# Altium schematic symbol library DSO.SchLib: 193 symbols (part 2 of 2)
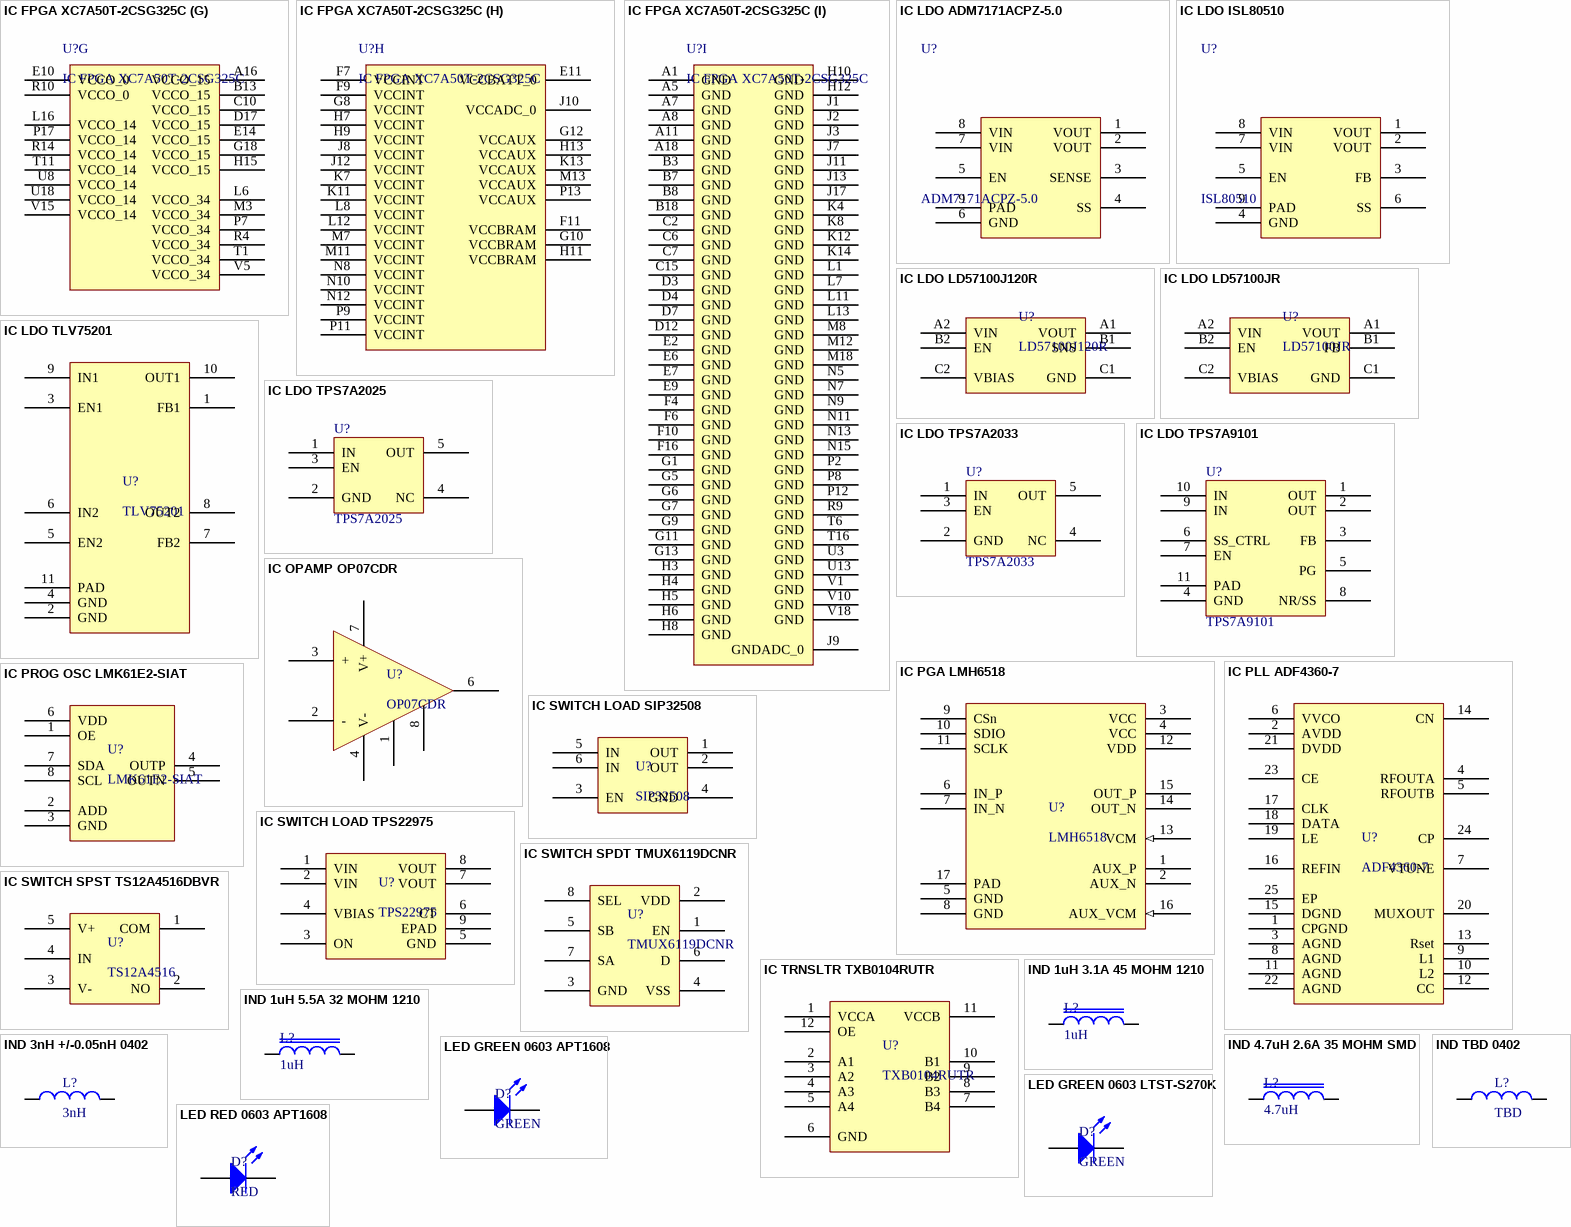
[diagram p8: symbols IC FPGA XC7A50T-2CSG325C to LED RED 0603 APT1608]

## IC LDO ADM7171ACPZ-5.0
designator U?, comment ADM7171ACPZ-5.0
Manufacturer: Analog Devices; Manufacturer Part Number: ADM7171ACPZ-5.0-R7; Supplier 1: Digi-Key; Supplier Part Number 1: 505-ADM7171ACPZ-5.0-R7CT-ND
footprint AD_DFN8_CP-8-21 (SON, 8-Leads, Body 3.00x3.00mm, Pitch 0.50mm, Thermal Pad 2.44x1.49mm, IPC Medium Density)
pins: 1 VOUT (power), 2 VOUT (power), 3 SENSE, 4 SS, 5 EN, 6 GND (power), 7 VIN (power), 8 VIN (power), 9 PAD

## IC LDO ISL80510
designator U?, comment ISL80510
Manufacturer: Renesas; Manufacturer Part Number: ISL80510IRAJZ-T7A; Supplier 1: Mouser; Supplier Part Number 1: 968-ISL80510IRAJZ-T7
footprint REN_DFN_ISL80510 (QFN, 8-Leads, Body 3.00x3.00mm, Pitch 0.65mm, Thermal Pad 1.62x2.36mm, IPC Medium Density)
pins: 1 VOUT (power), 2 VOUT (power), 3 FB, 4 GND (power), 5 EN, 6 SS, 7 VIN (power), 8 VIN (power), 9 PAD

## IC LDO LD57100J120R
designator U?, comment LD57100J120R
Manufacturer: STMicroelectronics; Supplier 1: Digi-Key; Supplier Part Number 1: 497-LD57100J120RCT-ND; Manufacturer Part Number: LD57100J120R
footprint ST_FlipChip6 (BGA, 6-Leads, Body 0.78x1.18mmx0.36mm, Pitch 0.40mm)
pins: A1 VOUT, A2 VIN, B1 SNS, B2 EN, C1 GND, C2 VBIAS

## IC LDO LD57100JR
designator U?, comment LD57100JR
Manufacturer: STMicroelectronics; Supplier 1: Digi-Key; Supplier Part Number 1: 497-LD57100JRCT-ND; House Part Number: LD57100JR; Manufacturer Part Number: LD57100JR
footprint ST_FlipChip6 (BGA, 6-Leads, Body 0.78x1.18mmx0.36mm, Pitch 0.40mm)
pins: A1 VOUT, A2 VIN, B1 FB, B2 EN, C1 GND, C2 VBIAS

## IC LDO TLV75201
designator U?, comment TLV75201
Manufacturer: Texas Instruments; Manufacturer Part Number: TLV75201PDSQR; Supplier 1: Texas Instruments; Supplier Part Number 1: TLV75201PDSQR
footprint TI_WSON10_DSQ0010A (SON, 10-Leads, Body 2.00x2.00mm, Pitch 0.40mm, Thermal Pad 1.50x0.69mm, IPC Medium Density)
pins: 1 FB1, 2 GND (power), 3 EN1, 4 GND (power), 5 EN2, 6 IN2 (power), 7 FB2, 8 OUT2 (power), 9 IN1 (power), 10 OUT1 (power), 11 PAD (power)

## IC LDO TPS7A2025
designator U?, comment TPS7A2025
Manufacturer: Texas Instruments; Manufacturer Part Number: TPS7A2025PDBVR; Supplier 1: Mouser; Supplier Part Number 1: 595-TPS7A2025PDBVR
footprint GEN_SOT23_5_950_2900X1600X1450 (SOT23, 5-Leads, Body 2.90x2.80mm, Pitch 0.95mm, IPC Medium Density)
pins: 1 IN (power), 2 GND (power), 3 EN, 4 NC, 5 OUT (power)

## IC LDO TPS7A2033
designator U?, comment TPS7A2033
Manufacturer: Texas Instruments; Manufacturer Part Number: TPS7A2033PDBVR; Supplier 1: Mouser; Supplier Part Number 1: 595-TPS7A2033PDBVR
footprint GEN_SOT23_5_950_2900X1600X1450 (SOT23, 5-Leads, Body 2.90x2.80mm, Pitch 0.95mm, IPC Medium Density)
pins: 1 IN (power), 2 GND (power), 3 EN, 4 NC, 5 OUT (power)

## IC LDO TPS7A9101
designator U?, comment TPS7A9101
Supplier 1: Digi-Key; Supplier Part Number 1: 296-45298-1-ND
footprint TI_WSON10_DSK0010A (SON, 10-Leads, Body 2.50x2.50mm, Pitch 0.50mm, Thermal Pad 2.00x1.09mm, IPC Medium Density)
pins: 1 OUT (power), 2 OUT (power), 3 FB, 4 GND (power), 5 PG, 6 SS_CTRL, 7 EN, 8 NR/SS, 9 IN (power), 10 IN (power), 11 PAD

## IC OPAMP OP07CDR
designator U?, comment OP07CDR
Manufacturer: Texas Instruments; Supplier 1: Digi-Key; Supplier Part Number 1: 296-14626-1-ND; Manufacturer Part Number: OP07CDR
footprint TI_SOIC8_D0008A (SOIC, 8-Leads, Body 4.91x3.90mm, Pitch 1.27mm, Height 1.75mm, IPC Medium Density)
pins: 1 N1, 2 -, 3 +, 4 V-, 6 OUT, 7 V+, 8 N2

## IC PGA LMH6518
designator U?, comment LMH6518
Manufacturer: Texas Instruments; Manufacturer Part Number: LMH6518SQE/NOPB; Supplier 1: Digi-Key; Supplier Part Number 1: LMH6518SQE/NOPBCT-ND
footprint TI_WQFN_RGH0016A (QFN, 16-Leads, Body 4.00x4.00mm, Pitch 0.50mm, Thermal Pad 2.60x2.60mm, IPC Medium Density)
pins: 1 AUX_P, 2 AUX_N, 3 VCC (power), 4 VCC (power), 5 GND (power), 6 IN_P, 7 IN_N, 8 GND (power), 9 CSn, 10 SDIO, 11 SCLK, 12 VDD (power), 13 VCM (in), 14 OUT_N, 15 OUT_P, 16 AUX_VCM (in), 17 PAD (power)

## IC PLL ADF4360-7
designator U?, comment ADF4360-7
Supplier 1: Digi-Key; Supplier Part Number 1: ADF4360-7BCPZRL7CT-ND
footprint AD_QFN24_CP-24-14 (QFN, 24-Leads, Body 4.00x4.00mm, Pitch 0.50mm, Thermal Pad 2.30x2.30mm, IPC Medium Density)
pins: 1 CPGND (power), 2 AVDD, 3 AGND, 4 RFOUTA, 5 RFOUTB, 6 VVCO, 7 VTUNE, 8 AGND, 9 L1, 10 L2, 11 AGND, 12 CC, 13 Rset, 14 CN, 15 DGND, 16 REFIN, 17 CLK, 18 DATA, 19 LE, 20 MUXOUT, 21 DVDD, 22 AGND, 23 CE, 24 CP, 25 EP

## IC PROG OSC LMK61E2-SIAT
designator U?, comment LMK61E2-SIAT
Manufacturer: Texas Instruments; Supplier 1: Digi-Key; Supplier Part Number 1: 296-43212-1-ND; Manufacturer Part Number: LMK61E2-SIAT
footprint TI_QFM8_SIA0008B
pins: 1 OE, 2 ADD, 3 GND (power), 4 OUTP, 5 OUTN, 6 VDD (power), 7 SDA, 8 SCL

## IC SWITCH LOAD SIP32508
designator U?, comment SIP32508
Manufacturer: Vishay Siliconix; Manufacturer Part Number: SIP32508DT-T1-GE3; Supplier 1: Digi-Key; Supplier Part Number 1: SIP32508DT-T1-GE3CT-ND; House Part Number: SIP32508
footprint VISH_TSOT6 (SOT23, 6-Leads, Body 2.98x2.84mm, Pitch 0.95mm, IPC Medium Density)
pins: 1 OUT, 2 OUT, 3 EN, 4 GND, 5 IN, 6 IN

## IC SWITCH LOAD TPS22975
designator U?, comment TPS22975
Manufacturer: Texas Instruments; Manufacturer Part Number: TPS22975DSGR; Supplier 1: Digi-Key; Supplier Part Number 1: 296-47228-1-ND
footprint TI_WSON8_DSG0008A (SON, 8-Leads, Body 2.00x2.00mm, Pitch 0.50mm, Thermal Pad 1.60x0.69mm, IPC Medium Density)
pins: 1 VIN, 2 VIN, 3 ON, 4 VBIAS, 5 GND, 6 CT, 7 VOUT, 8 VOUT, 9 EPAD

## IC SWITCH SPDT TMUX6119DCNR
designator U?, comment TMUX6119DCNR
Manufacturer: Texas Instruments; Manufacturer Part Number: TMUX6119DCNR; Supplier 1: Texas Instruments; Supplier Part Number 1: TMUX6119DCNR
footprint TI_SOT23_8_DCN (TSOP, 8-Leads, Body 2.90x1.60mm, Pitch 0.65mm, IPC Medium Density)
pins: 1 EN, 2 VDD, 3 GND, 4 VSS, 5 SB, 6 D, 7 SA, 8 SEL

## IC SWITCH SPST TS12A4516DBVR
designator U?, comment TS12A4516
Manufacturer: Texas Instruments; Manufacturer Part Number: TS12A4516DBVR; Supplier 1: Digi-Key; Supplier Part Number 1: 296-24269-1-ND
footprint GEN_SOT23_5_950_2900X1600X1450 (SOT23, 5-Leads, Body 2.90x2.80mm, Pitch 0.95mm, IPC Medium Density)
pins: 1 COM, 2 NO, 3 V-, 4 IN, 5 V+

## IC TRNSLTR TXB0104RUTR
designator U?, comment TXB0104RUTR
Manufacturer: Texas Instruments; Supplier 1: Digi-Key; Supplier Part Number 1: 296-25888-1-ND; House Part Number: TXB0104RUTR; Manufacturer Part Number: TXB0104RUTR
footprint TI_UQFN_RUT0012A
pins: 1 VCCA, 2 A1, 3 A2, 4 A3, 5 A4, 6 GND, 7 B4, 8 B3, 9 B2, 10 B1, 11 VCCB, 12 OE

## IND 1uH 3.1A 45 MOHM 1210
designator L?, comment 1uH
Manufacturer: Murata; Manufacturer Part Number: 1277AS-H-1R0M=P2; Value: 1uH; Supplier 1: Digi-Key; Supplier Part Number 1: 490-10590-1-ND
footprint GEN_L_1210 (Chip Inductor, 2-Leads, Body 3.20x2.50mm, IPC Medium Density)
pins: 1, 2

## IND 1uH 5.5A 32 MOHM 1210
designator L?, comment 1uH
Manufacturer: Bourns; House Part Number: SRP3212-1R0M; Value: 1uH; Supplier 1: Digi-Key; Supplier Part Number 1: 118-SRP3212-1R0MCT-ND; Manufacturer Part Number: SRP3212-1R0M
footprint GEN_L_1210 (Chip Inductor, 2-Leads, Body 3.20x2.50mm, IPC Medium Density)
pins: 1, 2

## IND 3nH +/-0.05nH 0402
designator L?, comment 3nH
Value: 3nH; Supplier 1: Digi-Key; Supplier Part Number 1: 490-8434-1-ND
footprint GEN_L_0402 (Chip Inductor, 2-Leads, Body 1.00x0.50mm, IPC Medium Density)
pins: 1, 2

## IND 4.7uH 2.6A 35 MOHM SMD
designator L?, comment 4.7uH
Manufacturer: Taiyo Yuden; Manufacturer Part Number: NRS5030T4R7MMGJ; Value: 4.7uH; Supplier 1: Digi-Key; Supplier Part Number 1: 587-3461-1-ND
footprint TY_IND_NRS5030 (Precision Wire Wound Inductor, 2-Leads, Body 4.90x4.90mm, IPC Medium Density)
pins: 1, 2

## IND TBD 0402
designator L?, comment TBD
Value: TBD
footprint GEN_L_0402 (Chip Inductor, 2-Leads, Body 1.00x0.50mm, IPC Medium Density)
pins: 1, 2

## LED GREEN 0603 APT1608
designator D?, comment GREEN
Supplier 1: Digi-Key; Supplier Part Number 1: 754-1934-1-ND
footprint LED_0603_APT1608
pins: 1 K, 2 A

## LED GREEN 0603 LTST-S270K
designator D?, comment GREEN
Manufacturer: Vishay Lite-On; Manufacturer Part Number: LTST-S270KGKT; Supplier 1: Digi-Key; Supplier Part Number 1: 160-1478-1-ND
footprint LED_0603_LTST-S270K
pins: 1 K, 2 A

## LED RED 0603 APT1608
designator D?, comment RED
Supplier 1: Digi-Key; Supplier Part Number 1: 754-1930-1-ND
footprint LED_0603_APT1608
pins: 1 K, 2 A

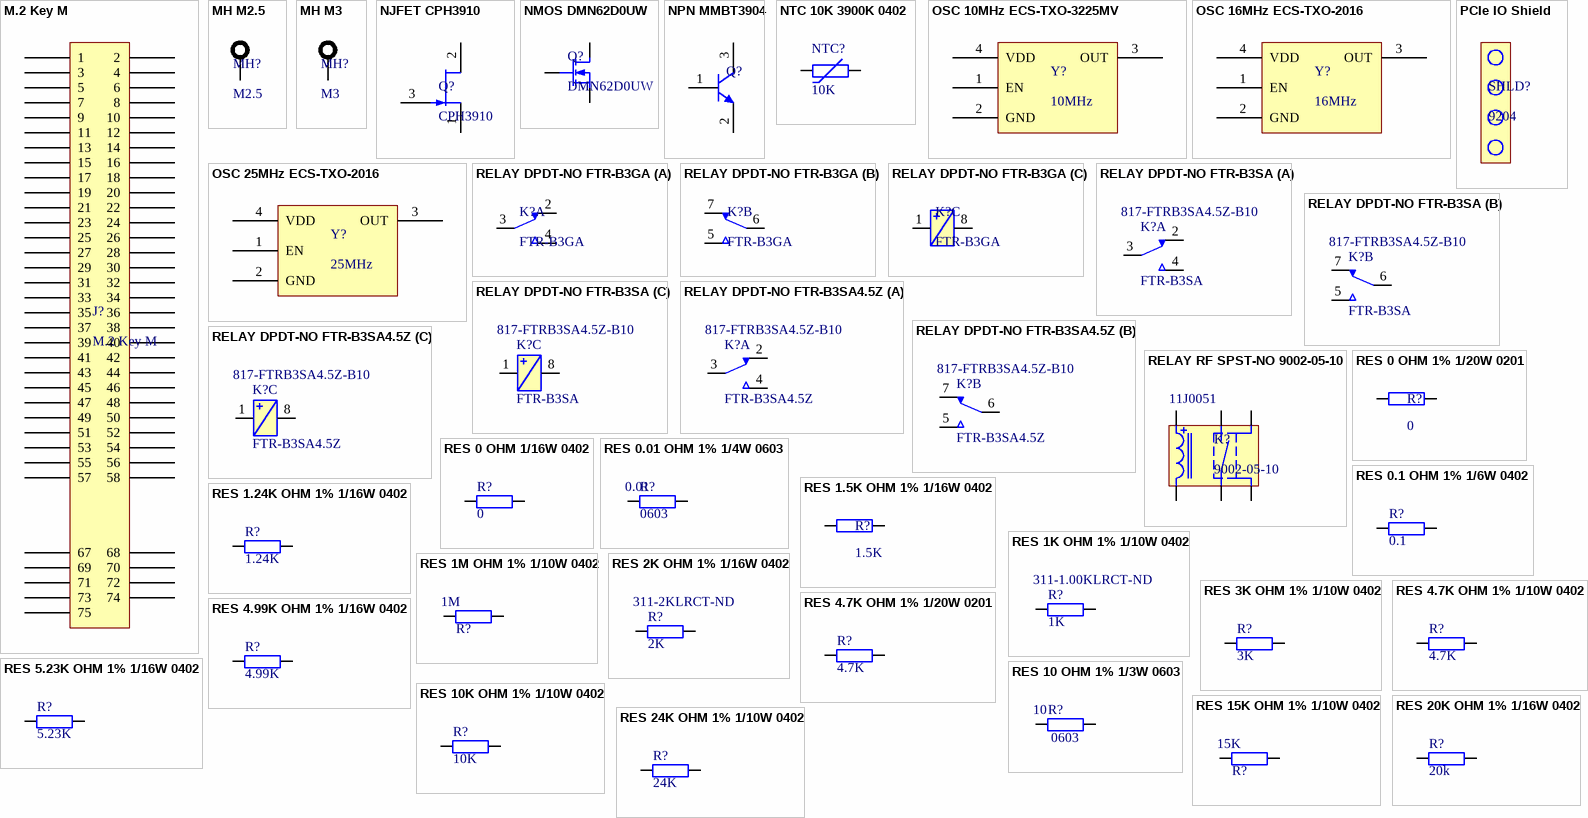
[diagram p5: symbols M.2 Key M to RES 24K OHM 1% 1/10W 0402]

## M.2 Key M
designator J?
footprint PCB EDGE M.2 Key M
pins: 1, 2, 3, 4, 5, 6, 7, 8, 9, 10, 11, 12, 13, 14, 15, 16, 17, 18, 19, 20, 21, 22, 23, 24, 25, 26, 27, 28, 29, 30, 31, 32, 33, 34, 35, 36, 37, 38, 39, 40, 41, 42, 43, 44, 45, 46, 47, 48, 49, 50, 51, 52, 53, 54, 55, 56, 57, 58, 67, 68, 69, 70, 71, 72, 73, 74, 75

## MH M2.5
designator MH?, comment M2.5  (no BOM)
footprint MH M2.5
pins: 1

## MH M3
designator MH?, comment M3  (no BOM)
footprint MH M3
pins: 1

## NJFET CPH3910
designator Q?, comment CPH3910
Manufacturer: ON Semiconductor; Manufacturer Part Number: CPH3910-TL-E; Supplier 1: Digi-Key; Supplier Part Number 1: CPH3910-TL-EOSCT-ND
footprint ON_SOT23_CPH3 (SOT23, 3-Leads, Body 2.90x2.80mm, Pitch 0.95mm, Height 0.95mm, IPC Medium Density)
pins: 1 S, 2 D, 3 G

## NMOS DMN62D0UW
designator Q?, comment DMN62D0UW
Manufacturer: Diodes; House Part Number: DMN62D0UW-7; Vdss: 60V; Supplier 1: Digi-Key; Supplier Part Number 1: DMN62D0UW-7DICT-ND; Manufacturer Part Number: DMN62D0UW-7
footprint GEN_SOT_323
pins: 1 D, 2 G, 3 S

## NPN MMBT3904
designator Q?, comment MMBT3904  (value not drawn)
Manufacturer: MCC; Manufacturer Part Number: MMBT3904-TP; Supplier 1: Digi-Key; Supplier Part Number 1: MMBT3904TPMSCT-ND
footprint MMC_SOT23 (SOT23, 3-Leads, Body 2.92x2.37mm, Pitch 0.95mm, Height 1.12mm, IPC Medium Density)
pins: 1 B, 2 E, 3 C

## NTC 10K 3900K 0402
designator NTC?, comment 10K
Manufacturer: Panasonic; Manufacturer Part Number: ERT-J0EM103J; Package: 0402; Supplier 1: Digi-Key; Value: 10K; Supplier Part Number 1: P12985CT-ND
footprint GEN_R_0402 (Chip Resistor, 2-Leads, Body 1.00x0.50mm, IPC Medium Density)
pins: 1, 2

## OSC 10MHz ECS-TXO-3225MV
designator Y?, comment 10MHz
Manufacturer: ECS International; Manufacturer Part Number: ECS-TXO-3225MV-100-TR; Supplier 1: Digi-Key; Supplier Part Number 1: 50-ECS-TXO-3225MV-100-CT-ND
footprint ECS_TXO-3225
pins: 1 EN, 2 GND (power), 3 OUT, 4 VDD (power)

## OSC 16MHz ECS-TXO-2016
designator Y?, comment 16MHz
Manufacturer: ECS International; Manufacturer Part Number: ECS-TXO-2016-33-160-TR; Supplier 1: Digi-Key; Supplier Part Number 1: XC3161CT-ND
footprint ECS_TXO-2016
pins: 1 EN, 2 GND (power), 3 OUT, 4 VDD (power)

## OSC 25MHz ECS-TXO-2016
designator Y?, comment 25MHz
Manufacturer: ECS International; House Part Number: ECS-TXO-2016-33-250-TR; Supplier 1: Digi-Key; Supplier Part Number 1: XC3163CT-ND; Manufacturer Part Number: ECS-TXO-2016-33-250-TR
footprint ECS_TXO-2016
pins: 1 EN, 2 GND (power), 3 OUT, 4 VDD (power)

## PCIe IO Shield
designator SHLD?, comment 9204  (mechanical)
Manufacturer: Keystone Electronics; Supplier 1: Mouser; Supplier Part Number 1: 534-9204; Manufacturer Part Number: 9204

## RELAY DPDT-NO FTR-B3GA
designator K?, comment FTR-B3GA
footprint FUJ_FTR-B3GA
part A pins: 2, 3, 4
part B pins: 5, 6, 7
part C pins: 1, 8

## RELAY DPDT-NO FTR-B3SA
designator K?, comment FTR-B3SA  Supplier Part Number 1: 817-FTRB3SA4.5Z-B10
Manufacturer: Fujitsu; Manufacturer Part Number: FTR-B3SA4.5Z; Supplier 1: Mouser
footprint FUJ_FTR-B3SA
part A pins: 2, 3, 4
part B pins: 5, 6, 7
part C pins: 1, 8

## RELAY DPDT-NO FTR-B3SA4.5Z
designator K?, comment FTR-B3SA4.5Z  Supplier Part Number 1: 817-FTRB3SA4.5Z-B10
Manufacturer: Fujitsu; Manufacturer Part Number: FTR-B3SA4.5Z; Supplier 1: Mouser
footprint FUJ_FTR-B3SA
part A pins: 2, 3, 4
part B pins: 5, 6, 7
part C pins: 1, 8

## RELAY RF SPST-NO 9002-05-10
designator K?, comment 9002-05-10  Supplier Part Number 1: 11J0051
Manufacturer: Coto Technology; Supplier 1: Newark; Manufacturer Part Number: 9002-05-10
footprint COTO_9002-05-10
pins: 1, 2, 3, 4, 5, 6

## RES 0 OHM 1% 1/20W 0201
designator R?, comment 0
Manufacturer: Stackpole Electronics; Manufacturer Part Number: RMCF0201ZT0R00; Tolerance: 1%; Package: 0201; Value: 0; Supplier 1: Digi-Key; Supplier Part Number 1: RMCF0201ZT0R00CT-ND
footprint GEN_R_0201 (Chip Resistor, 2-Leads, Body 0.60x0.30mm, IPC Medium Density)
pins: 1, 2

## RES 0 OHM 1/16W 0402
designator R?, comment 0
Manufacturer: Yageo; Manufacturer Part Number: RC0402JR-070RL; Package: 0402; Supplier 1: Digi-Key; Supplier Part Number 1: 311-0.0JRCT-ND; Value: 0
footprint GEN_R_0402 (Chip Resistor, 2-Leads, Body 1.00x0.50mm, IPC Medium Density)
pins: 1, 2

## RES 0.01 OHM 1% 1/4W 0603
designator R?, comment 0.01  Package: 0603
Manufacturer: Susumu; House Part Number: R-0.01-0603-1%-001; Manufacturer Part Number: RL0816T-R010-F; Tolerance: 1%; Supplier 1: Digi-Key; Supplier Part Number 1: 408-1404-1-ND; Value: 0.01
footprint GEN_R_0603
pins: 1, 2

## RES 0.1 OHM 1% 1/6W 0402
designator R?, comment 0.1
Manufacturer: Panasonic; Manufacturer Part Number: ERJ-2BSFR10X; Tolerance: 1%; Package: 0402; Supplier 1: Digi-Key; Supplier Part Number 1: P.10AKCT-ND; Value: 0.1
footprint GEN_R_0402 (Chip Resistor, 2-Leads, Body 1.00x0.50mm, IPC Medium Density)
pins: 1, 2

## RES 1.5K OHM 1% 1/16W 0402
designator R?, comment 1.5K
Manufacturer: Yageo; Manufacturer Part Number: RC0402FR-071K5L; Tolerance: 1%; Package: 0402; Value: 1.5K; Supplier 1: Digi-Key; Supplier Part Number 1: 311-1.50KLRCT-ND
footprint GEN_R_0402 (Chip Resistor, 2-Leads, Body 1.00x0.50mm, IPC Medium Density)
pins: 1, 2

## RES 1.24K OHM 1% 1/16W 0402
designator R?, comment 1.24K
Manufacturer: Yageo; Manufacturer Part Number: RC0402FR-071K24L; Tolerance: 1%; Package: 0402; Value: 1.24K; Supplier 1: Digi-Key; Supplier Part Number 1: 311-1.24KLRCT-ND
footprint GEN_R_0402 (Chip Resistor, 2-Leads, Body 1.00x0.50mm, IPC Medium Density)
pins: 1, 2

## RES 1K OHM 1% 1/10W 0402
designator R?, comment 1K  Supplier Part Number 1: 311-1.00KLRCT-ND
Manufacturer: Yageo; House Part Number: R-1K-0402-1%-001; Manufacturer Part Number: RC0402FR-071KL; Tolerance: 1%; Package: 0402; Value: 1K; Supplier 1: Digi-Key
footprint GEN_R_0402 (Chip Resistor, 2-Leads, Body 1.00x0.50mm, IPC Medium Density)
pins: 1, 2

## RES 1M OHM 1% 1/10W 0402
designator R?, comment 1M
Manufacturer: Panasonic; Manufacturer Part Number: ERJ-2RKF1004X; Tolerance: 1%; Package: 0402; Supplier 1: Digi-Key; Supplier Part Number 1: P1.00MLCT-ND; Value: 1M
footprint GEN_R_0402 (Chip Resistor, 2-Leads, Body 1.00x0.50mm, IPC Medium Density)
pins: 1, 2

## RES 2K OHM 1% 1/16W 0402
designator R?, comment 2K  Supplier Part Number 1: 311-2KLRCT-ND
Manufacturer: Yageo; Manufacturer Part Number: RC0402FR-072KL; Tolerance: 1%; Package: 0402; Value: 2K; Supplier 1: Digi-Key
footprint GEN_R_0402 (Chip Resistor, 2-Leads, Body 1.00x0.50mm, IPC Medium Density)
pins: 1, 2

## RES 3K OHM 1% 1/10W 0402
designator R?, comment 3K
Manufacturer: Panasonic; Manufacturer Part Number: ERJ-2RKF3001X; Tolerance: 1%; Package: 0402; Supplier 1: Digi-Key; Supplier Part Number 1: P3.00KLCT-ND; Value: 3K
footprint GEN_R_0402 (Chip Resistor, 2-Leads, Body 1.00x0.50mm, IPC Medium Density)
pins: 1, 2

## RES 4.7K OHM 1% 1/10W 0402
designator R?, comment 4.7K
Manufacturer: Panasonic; Manufacturer Part Number: ERJ-2RKF4701X; Tolerance: 1%; Package: 0402; Supplier 1: Digi-Key; Supplier Part Number 1: P4.70KLCT-ND; Value: 4.7K
footprint GEN_R_0402 (Chip Resistor, 2-Leads, Body 1.00x0.50mm, IPC Medium Density)
pins: 1, 2

## RES 4.7K OHM 1% 1/20W 0201
designator R?, comment 4.7K
Manufacturer: Yageo; House Part Number: R-4.7K-0201-1%-001; Manufacturer Part Number: RC0201FR-074K7L; Tolerance: 1%; Package: 0201; Value: 4.7K; Supplier 1: Digi-Key; Supplier Part Number 1: 311-4.70KMTR-ND
footprint GEN_R_0201 (Chip Resistor, 2-Leads, Body 0.60x0.30mm, IPC Medium Density)
pins: 1, 2

## RES 4.99K OHM 1% 1/16W 0402
designator R?, comment 4.99K
Manufacturer: Yageo; Manufacturer Part Number: RC0402FR-074K99L; Tolerance: 1%; Package: 0402; Value: 4.99K; Supplier 1: Digi-Key; Supplier Part Number 1: 311-4.99KLRCT-ND
footprint GEN_R_0402 (Chip Resistor, 2-Leads, Body 1.00x0.50mm, IPC Medium Density)
pins: 1, 2

## RES 5.23K OHM 1% 1/16W 0402
designator R?, comment 5.23K
Manufacturer: Yageo; Manufacturer Part Number: RC0402FR-075K23L; Tolerance: 1%; Package: 0402; Value: 5.23K; Supplier 1: Digi-Key; Supplier Part Number 1: YAG3195CT-ND
footprint GEN_R_0402 (Chip Resistor, 2-Leads, Body 1.00x0.50mm, IPC Medium Density)
pins: 1, 2

## RES 10 OHM 1% 1/3W 0603
designator R?, comment 10  Package: 0603
Manufacturer: KOA Speer; Manufacturer Part Number: SG73P1JTTD10R0F; Tolerance: 1%; Value: 10; Supplier 1: Digi-Key; Supplier Part Number 1: 2019-SG73P1JTTD10R0FCT-ND
footprint GEN_R_0603
pins: 1, 2

## RES 10K OHM 1% 1/10W 0402
designator R?, comment 10K
Manufacturer: Panasonic; Manufacturer Part Number: ERJ-2RKF1002X; Tolerance: 1%; Package: 0402; Supplier 1: Digi-Key; Supplier Part Number 1: P10.0KLCT-ND; Value: 10K
footprint GEN_R_0402 (Chip Resistor, 2-Leads, Body 1.00x0.50mm, IPC Medium Density)
pins: 1, 2

## RES 15K OHM 1% 1/10W 0402
designator R?, comment 15K
Manufacturer: Panasonic; Manufacturer Part Number: ERJ-2RKF1502X; Tolerance: 1%; Package: 0402; Supplier 1: Digi-Key; Supplier Part Number 1: P15.0KLCT-ND; Value: 15K
footprint GEN_R_0402 (Chip Resistor, 2-Leads, Body 1.00x0.50mm, IPC Medium Density)
pins: 1, 2

## RES 20K OHM 1% 1/16W 0402
designator R?, comment 20k
Manufacturer: Yageo; Manufacturer Part Number: RC0402FR-0720KL; Tolerance: 1%; Package: 0402; Value: 20k; Supplier 1: Digi-Key; Supplier Part Number 1: 311-20.0KLRCT-ND
footprint GEN_R_0402 (Chip Resistor, 2-Leads, Body 1.00x0.50mm, IPC Medium Density)
pins: 1, 2

## RES 24K OHM 1% 1/10W 0402
designator R?, comment 24K
Manufacturer: Panasonic; Manufacturer Part Number: ERJ-2RKF2402X; Tolerance: 1%; Package: 0402; Supplier 1: Digi-Key; Supplier Part Number 1: P24.0KLCT-ND; Value: 24K
footprint GEN_R_0402 (Chip Resistor, 2-Leads, Body 1.00x0.50mm, IPC Medium Density)
pins: 1, 2

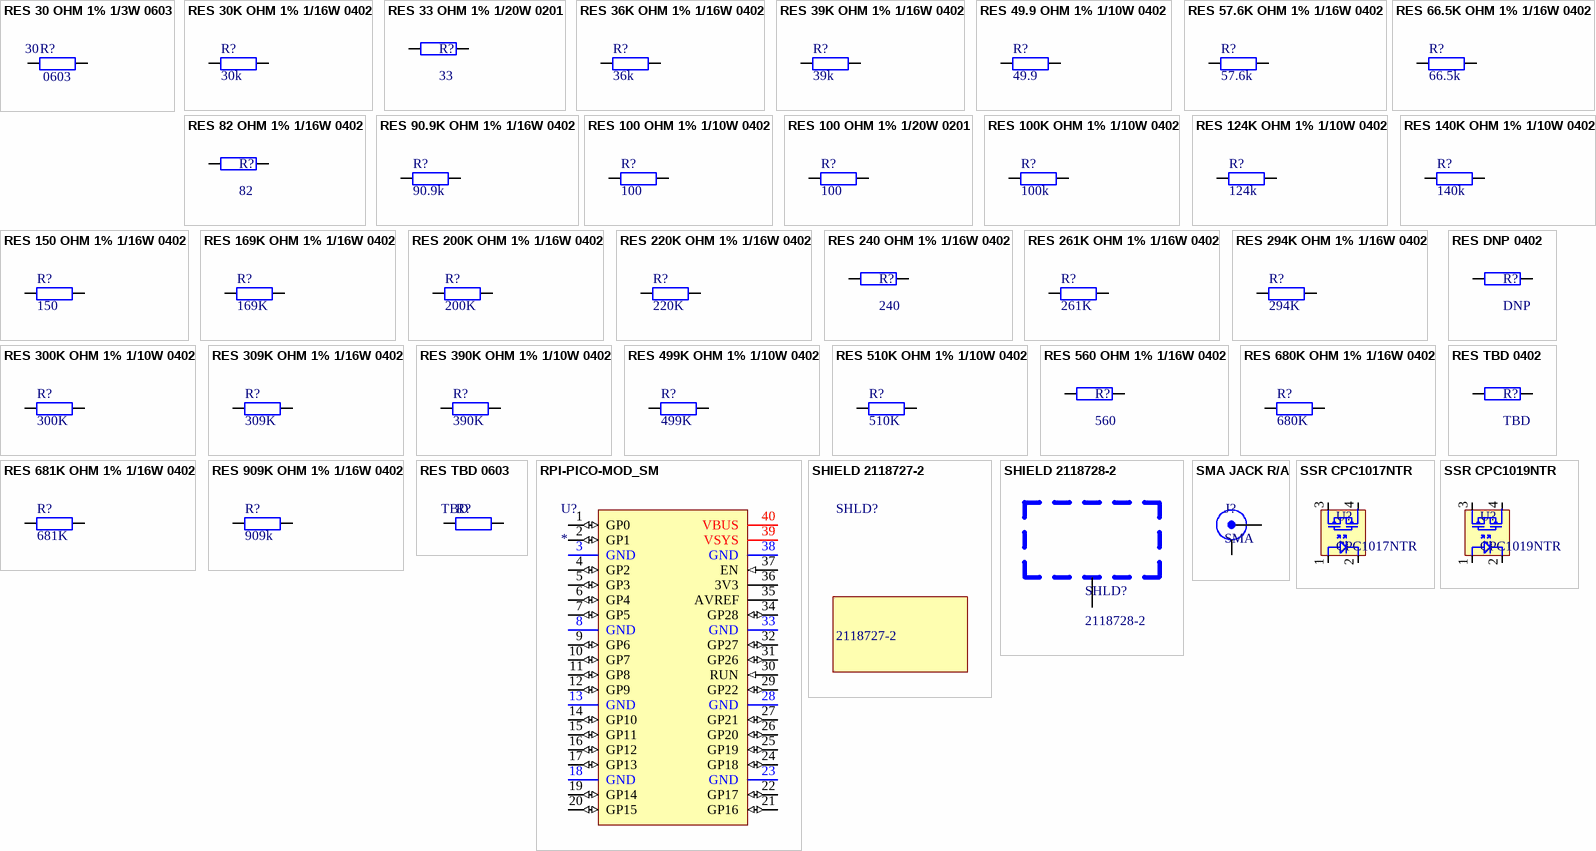
[diagram p6: symbols RES 30 OHM 1% 1/3W 0603 to SSR CPC1019NTR]

## RES 30 OHM 1% 1/3W 0603
designator R?, comment 30  Package: 0603
Manufacturer: KOA Speer; Manufacturer Part Number: SG73P1JTTD30R0F; Tolerance: 1%; Value: 30; Supplier 1: Digi-Key; Supplier Part Number 1: 2019-SG73P1JTTD30R0FCT-ND
footprint GEN_R_0603
pins: 1, 2

## RES 30K OHM 1% 1/16W 0402
designator R?, comment 30k
Manufacturer: Yageo; Manufacturer Part Number: RC0402FR-0730KL; Tolerance: 1%; Package: 0402; Value: 30k; Supplier 1: Digi-Key; Supplier Part Number 1: 311-30.0KLRCT-ND
footprint GEN_R_0402 (Chip Resistor, 2-Leads, Body 1.00x0.50mm, IPC Medium Density)
pins: 1, 2

## RES 33 OHM 1% 1/20W 0201
designator R?, comment 33
Manufacturer: Stackpole Electronics; House Part Number: R-33-0201-1%-001; Manufacturer Part Number: RMCF0201FT33R0; Tolerance: 1%; Package: 0201; Value: 33; Supplier 1: Digi-Key; Supplier Part Number 1: RMCF0201FT33R0CT-ND
footprint GEN_R_0201 (Chip Resistor, 2-Leads, Body 0.60x0.30mm, IPC Medium Density)
pins: 1, 2

## RES 36K OHM 1% 1/16W 0402
designator R?, comment 36k
Manufacturer: Yageo; Manufacturer Part Number: RC0402FR-0736KL; Tolerance: 1%; Package: 0402; Value: 36k; Supplier 1: Digi-Key; Supplier Part Number 1: 311-36.0KLRCT-ND
footprint GEN_R_0402 (Chip Resistor, 2-Leads, Body 1.00x0.50mm, IPC Medium Density)
pins: 1, 2

## RES 39K OHM 1% 1/16W 0402
designator R?, comment 39k
Manufacturer: Yageo; Manufacturer Part Number: RC0402FR-0739KL; Tolerance: 1%; Package: 0402; Value: 39k; Supplier 1: Digi-Key; Supplier Part Number 1: 311-39.0KLRCT-ND
footprint GEN_R_0402 (Chip Resistor, 2-Leads, Body 1.00x0.50mm, IPC Medium Density)
pins: 1, 2

## RES 49.9 OHM 1% 1/10W 0402
designator R?, comment 49.9
Manufacturer: Yageo; Manufacturer Part Number: RC0402FR-0749R9L; Tolerance: 1%; Package: 0402; Value: 49.9; Supplier 1: Digi-Key; Supplier Part Number 1: 311-49.9LRCT-ND
footprint GEN_R_0402 (Chip Resistor, 2-Leads, Body 1.00x0.50mm, IPC Medium Density)
pins: 1, 2

## RES 57.6K OHM 1% 1/16W 0402
designator R?, comment 57.6k
Manufacturer: Yageo; Manufacturer Part Number: RC0402FR-0757K6L; Tolerance: 1%; Package: 0402; Value: 57.6k; Supplier 1: Digi-Key; Supplier Part Number 1: YAG3190CT-ND
footprint GEN_R_0402 (Chip Resistor, 2-Leads, Body 1.00x0.50mm, IPC Medium Density)
pins: 1, 2

## RES 66.5K OHM 1% 1/16W 0402
designator R?, comment 66.5k
Manufacturer: Yageo; House Part Number: R-66.5K-0402-1%-001; Manufacturer Part Number: RC0402FR-0766K5L; Tolerance: 1%; Package: 0402; Value: 66.5k; Supplier 1: Digi-Key; Supplier Part Number 1: YAG3209CT-ND
footprint GEN_R_0402 (Chip Resistor, 2-Leads, Body 1.00x0.50mm, IPC Medium Density)
pins: 1, 2

## RES 82 OHM 1% 1/16W 0402
designator R?, comment 82
Manufacturer: Yageo; House Part Number: R-82-0402-1%-001; Manufacturer Part Number: RC0402FR-0782RL; Tolerance: 1%; Package: 0402; Supplier 1: Digi-Key; Supplier Part Number 1: 311-82LRCT-ND; Value: 82
footprint GEN_R_0402 (Chip Resistor, 2-Leads, Body 1.00x0.50mm, IPC Medium Density)
pins: 1, 2

## RES 90.9K OHM 1% 1/16W 0402
designator R?, comment 90.9k
Manufacturer: Yageo; Manufacturer Part Number: RC0402FR-0790K9L; Tolerance: 1%; Package: 0402; Value: 90.9k; Supplier 1: Digi-Key; Supplier Part Number 1: 311-90.9KLRCT-ND
footprint GEN_R_0402 (Chip Resistor, 2-Leads, Body 1.00x0.50mm, IPC Medium Density)
pins: 1, 2

## RES 100 OHM 1% 1/10W 0402
designator R?, comment 100
Manufacturer: Yageo; Manufacturer Part Number: RC0402FR-07100RL; Tolerance: 1%; Package: 0402; Value: 100; Supplier 1: Digi-Key; Supplier Part Number 1: 311-100LRCT-ND
footprint GEN_R_0402 (Chip Resistor, 2-Leads, Body 1.00x0.50mm, IPC Medium Density)
pins: 1, 2

## RES 100 OHM 1% 1/20W 0201
designator R?, comment 100
Manufacturer: Yageo; House Part Number: R-100-0201-1%-001; Manufacturer Part Number: RC0201FR-07100RL; Tolerance: 1%; Package: 0201; Value: 100; Supplier 1: Digi-Key; Supplier Part Number 1: 311-100MCT-ND
footprint GEN_R_0201 (Chip Resistor, 2-Leads, Body 0.60x0.30mm, IPC Medium Density)
pins: 1, 2

## RES 100K OHM 1% 1/10W 0402
designator R?, comment 100k
Manufacturer: Yageo; House Part Number: R-100K-0402-1%-001; Manufacturer Part Number: RC0402FR-07100KL; Tolerance: 1%; Package: 0402; Value: 100k; Supplier 1: Digi-Key; Supplier Part Number 1: 311-100KLRCT-ND
footprint GEN_R_0402 (Chip Resistor, 2-Leads, Body 1.00x0.50mm, IPC Medium Density)
pins: 1, 2

## RES 124K OHM 1% 1/10W 0402
designator R?, comment 124k
Manufacturer: Yageo; House Part Number: R-124K-0402-1%-001; Manufacturer Part Number: RC0402FR-07124KL; Tolerance: 1%; Package: 0402; Value: 124k; Supplier 1: Digi-Key; Supplier Part Number 1: 311-124KLRCT-ND
footprint GEN_R_0402 (Chip Resistor, 2-Leads, Body 1.00x0.50mm, IPC Medium Density)
pins: 1, 2

## RES 140K OHM 1% 1/10W 0402
designator R?, comment 140k
Manufacturer: Yageo; House Part Number: R-140K-0402-1%-001; Manufacturer Part Number: RC0402FR-07140KL; Tolerance: 1%; Package: 0402; Value: 140k; Supplier 1: Digi-Key; Supplier Part Number 1: YAG2978CT-ND
footprint GEN_R_0402 (Chip Resistor, 2-Leads, Body 1.00x0.50mm, IPC Medium Density)
pins: 1, 2

## RES 150 OHM 1% 1/16W 0402
designator R?, comment 150
Manufacturer: Yageo; Manufacturer Part Number: RC0402FR-07150RL; Tolerance: 1%; Package: 0402; Value: 150; Supplier 1: Digi-Key; Supplier Part Number 1: 311-150LRCT-ND
footprint GEN_R_0402 (Chip Resistor, 2-Leads, Body 1.00x0.50mm, IPC Medium Density)
pins: 1, 2

## RES 169K OHM 1% 1/16W 0402
designator R?, comment 169K
Manufacturer: Yageo; Manufacturer Part Number: RC0402FR-07169KL; Tolerance: 1%; Package: 0402; Value: 169K; Supplier 1: Digi-Key; Supplier Part Number 1: YAG3000CT-ND
footprint GEN_R_0402 (Chip Resistor, 2-Leads, Body 1.00x0.50mm, IPC Medium Density)
pins: 1, 2

## RES 200K OHM 1% 1/16W 0402
designator R?, comment 200K
Manufacturer: Yageo; House Part Number: R-200K-0402-1%-001; Manufacturer Part Number: RC0402FR-07200KL; Tolerance: 1%; Package: 0402; Value: 200K; Supplier 1: Digi-Key; Supplier Part Number 1: 311-200KLRCT-ND
footprint GEN_R_0402 (Chip Resistor, 2-Leads, Body 1.00x0.50mm, IPC Medium Density)
pins: 1, 2

## RES 220K OHM 1% 1/16W 0402
designator R?, comment 220K
Manufacturer: Yageo; Manufacturer Part Number: RC0402FR-07220KL; Tolerance: 1%; Package: 0402; Value: 220K; Supplier 1: Digi-Key; Supplier Part Number 1: 311-220KLRCT-ND
footprint GEN_R_0402 (Chip Resistor, 2-Leads, Body 1.00x0.50mm, IPC Medium Density)
pins: 1, 2

## RES 240 OHM 1% 1/16W 0402
designator R?, comment 240
Manufacturer: Yageo; House Part Number: R-240-0402-1%-001; Manufacturer Part Number: RC0402FR-07240RL; Tolerance: 1%; Package: 0402; Value: 240; Supplier 1: Digi-Key; Supplier Part Number 1: 311-240LRTR-ND
footprint GEN_R_0402 (Chip Resistor, 2-Leads, Body 1.00x0.50mm, IPC Medium Density)
pins: 1, 2

## RES 261K OHM 1% 1/16W 0402
designator R?, comment 261K
Manufacturer: Yageo; Manufacturer Part Number: RC0402FR-07261KL; Tolerance: 1%; Package: 0402; Value: 261K; Supplier 1: Digi-Key; Supplier Part Number 1: 311-261KLRCT-ND
footprint GEN_R_0402 (Chip Resistor, 2-Leads, Body 1.00x0.50mm, IPC Medium Density)
pins: 1, 2

## RES 294K OHM 1% 1/16W 0402
designator R?, comment 294K
Manufacturer: Yageo; Manufacturer Part Number: RC0402FR-07294KL; Tolerance: 1%; Package: 0402; Value: 294K; Supplier 1: Digi-Key; Supplier Part Number 1: YAG3092CT-ND
footprint GEN_R_0402 (Chip Resistor, 2-Leads, Body 1.00x0.50mm, IPC Medium Density)
pins: 1, 2

## RES 300K OHM 1% 1/10W 0402
designator R?, comment 300K
Manufacturer: Panasonic; Manufacturer Part Number: ERJ-2RKF3003X; Tolerance: 1%; Package: 0402; Supplier 1: Digi-Key; Supplier Part Number 1: P300KLCT-ND; Value: 300K
footprint GEN_R_0402 (Chip Resistor, 2-Leads, Body 1.00x0.50mm, IPC Medium Density)
pins: 1, 2

## RES 309K OHM 1% 1/16W 0402
designator R?, comment 309K
Manufacturer: Yageo; Manufacturer Part Number: RC0402FR-07309KL; Tolerance: 1%; Package: 0402; Value: 309K; Supplier 1: Digi-Key; Supplier Part Number 1: YAG3108CT-ND
footprint GEN_R_0402 (Chip Resistor, 2-Leads, Body 1.00x0.50mm, IPC Medium Density)
pins: 1, 2

## RES 390K OHM 1% 1/10W 0402
designator R?, comment 390K
Manufacturer: Panasonic; Manufacturer Part Number: ERJ-2RKF3903X; Tolerance: 1%; Package: 0402; Supplier 1: Digi-Key; Supplier Part Number 1: P390KLCT-ND; Value: 390K
footprint GEN_R_0402 (Chip Resistor, 2-Leads, Body 1.00x0.50mm, IPC Medium Density)
pins: 1, 2

## RES 499K OHM 1% 1/10W 0402
designator R?, comment 499K
Tolerance: 1%; Package: 0402; Supplier 1: Digi-Key; Supplier Part Number 1: P499KLCT-ND; Value: 499K
footprint GEN_R_0402 (Chip Resistor, 2-Leads, Body 1.00x0.50mm, IPC Medium Density)
pins: 1, 2

## RES 510K OHM 1% 1/10W 0402
designator R?, comment 510K
Manufacturer: Panasonic; Manufacturer Part Number: ERJ-2RKF5103X; Tolerance: 1%; Package: 0402; Supplier 1: Digi-Key; Supplier Part Number 1: P510KLCT-ND; Value: 510K
footprint GEN_R_0402 (Chip Resistor, 2-Leads, Body 1.00x0.50mm, IPC Medium Density)
pins: 1, 2

## RES 560 OHM 1% 1/16W 0402
designator R?, comment 560
Manufacturer: Yageo; Manufacturer Part Number: RC0402FR-07560RL; Tolerance: 1%; Package: 0402; Value: 560; Supplier 1: Digi-Key; Supplier Part Number 1: 311-560LRCT-ND
footprint GEN_R_0402 (Chip Resistor, 2-Leads, Body 1.00x0.50mm, IPC Medium Density)
pins: 1, 2

## RES 680K OHM 1% 1/16W 0402
designator R?, comment 680K
Manufacturer: Yageo; Manufacturer Part Number: RC0402FR-07681KL; Tolerance: 1%; Package: 0402; Value: 680K; Supplier 1: Digi-Key; Supplier Part Number 1: YAG3211CT-ND
footprint GEN_R_0402 (Chip Resistor, 2-Leads, Body 1.00x0.50mm, IPC Medium Density)
pins: 1, 2

## RES 681K OHM 1% 1/16W 0402
designator R?, comment 681K
Manufacturer: Yageo; Manufacturer Part Number: RC0402FR-07681KL; Tolerance: 1%; Package: 0402; Value: 681K; Supplier 1: Digi-Key; Supplier Part Number 1: YAG3212CT-ND
footprint GEN_R_0402 (Chip Resistor, 2-Leads, Body 1.00x0.50mm, IPC Medium Density)
pins: 1, 2

## RES 909K OHM 1% 1/16W 0402
designator R?, comment 909k
Manufacturer: Yageo; Manufacturer Part Number: RC0402FR-07909KL; Tolerance: 1%; Package: 0402; Supplier 1: Digi-Key; Supplier Part Number 1: YAG2377CT-ND; Value: 909k
footprint GEN_R_0402 (Chip Resistor, 2-Leads, Body 1.00x0.50mm, IPC Medium Density)
pins: 1, 2

## RES DNP 0402
designator R?, comment DNP  (no BOM)
Tolerance: 1%; Package: 0402; Value: DNP
footprint GEN_R_0402 (Chip Resistor, 2-Leads, Body 1.00x0.50mm, IPC Medium Density)
pins: 1, 2

## RES TBD 0402
designator R?, comment TBD  (no BOM)
Tolerance: 1%; Package: 0402; Value: TBD
footprint GEN_R_0402 (Chip Resistor, 2-Leads, Body 1.00x0.50mm, IPC Medium Density)
pins: 1, 2

## RES TBD 0603
designator R?, comment TBD
Value: TBD; Package: 0603
footprint GEN_R_0603
pins: 1, 2

## RPI-PICO-MOD_SM
designator U?
RASPBERRY PI PICO RP2040 BOARD NO TEST PADS; Manufacturer: Raspberry Pi Foundation; Manufacturer Part No: SC0915; Mounting Technology: SMT; Supplier: DigiKey; Supplier Part No: 2648-SC0915CT-ND; Supplier Link: https://www.digikey.com/en/products/detail/raspberry-pi/SC0915/13684020
footprint RPI-PICO-MOD (RASPBERRY PI PICO RP2040 BOARD)
pins: 1 GP0 (io), 2 GP1 (io), 3 GND (power), 4 GP2 (io), 5 GP3 (io), 6 GP4 (io), 7 GP5 (io), 8 GND (power), 9 GP6 (io), 10 GP7 (io), 11 GP8 (io), 12 GP9 (io), 13 GND (power), 14 GP10 (io), 15 GP11 (io), 16 GP12 (io), 17 GP13 (io), 18 GND (power), 19 GP14 (io), 20 GP15 (io), 21 GP16 (io), 22 GP17 (io), 23 GND (power), 24 GP18 (io), 25 GP19 (io), 26 GP20 (io), 27 GP21 (io), 28 GND (power), 29 GP22 (io), 30 RUN (in), 31 GP26 (io), 32 GP27 (io), 33 GND (power), 34 GP28 (io), 35 AVREF (power), 36 3V3 (power), 37 EN (in), 38 GND (power), 39 VSYS (power), 40 VBUS (power)

## SHIELD 2118727-2
designator SHLD?, comment 2118727-2  (mechanical)
Manufacturer: TE Connectivity AMP; Supplier 1: Digi-Key; Supplier Part Number 1: A126132-ND; Manufacturer Part Number: 2118727-2

## SHIELD 2118728-2
designator SHLD?, comment 2118728-2
Manufacturer: TE Connectivity; Supplier 1: Digi-Key; Supplier Part Number 1: A126158CT-ND; Manufacturer Part Number: 2118728-2
footprint TE_2118728-2
pins: 1

## SMA JACK R/A
designator J?, comment SMA
Manufacturer: Molex; Manufacturer Part Number: 73100-0105; Supplier 1: Digi-Key; Supplier Part Number 1: WM26450-ND
footprint MOL_0733910083
pins: 1 Signal, 2 SHIELD

## SSR CPC1017NTR
designator U?, comment CPC1017NTR
Manufacturer: Ixys Clare; Supplier 1: Digi-Key; Supplier Part Number 1: CLA233CT-ND; Manufacturer Part Number: CPC1017NTR
footprint IXY_CPC1017
pins: 1, 2, 3, 4

## SSR CPC1019NTR
designator U?, comment CPC1019NTR
Manufacturer: IXYS; Supplier 1: Mouser; Supplier Part Number 1: 849-CPC1019NTR; Manufacturer Part Number: CPC1019NTR
footprint IXY_CPC1017
pins: 1, 2, 3, 4

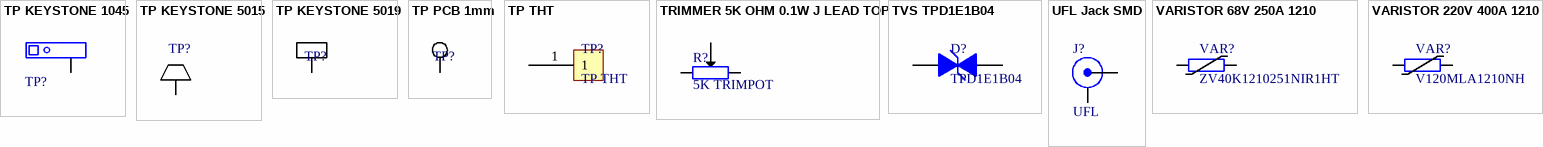
[diagram p7: symbols TP KEYSTONE 1045 to VARISTOR 220V 400A 1210]

## TP KEYSTONE 1045
designator TP?, comment 1045  (value not drawn)
Manufacturer: Keystone Electronics; Supplier 1: Digi-Key; Supplier Part Number 1: 36-1045-ND; Manufacturer Part Number: 1045
footprint KEY_1045
pins: 1

## TP KEYSTONE 5015
designator TP?, comment 5015  (value not drawn)
Manufacturer: Keystone Electronics; Supplier 1: Digi-Key; Supplier Part Number 1: 36-5015CT-ND; Manufacturer Part Number: 5015
footprint KEY_5015 (PC TEST POINT MICRO MINIATURE)
pins: 1

## TP KEYSTONE 5019
designator TP?, comment 5019  (value not drawn)
Manufacturer: Keystone Electronics; Supplier 1: Digi-Key; Supplier Part Number 1: 36-5019CT-ND; Manufacturer Part Number: 5019
footprint KEY_5019 (PC TEST POINT MINIATURE)
pins: 1

## TP PCB 1mm
designator TP?, comment PCB  (value not drawn)  (no BOM)
footprint GEN_TP_PCB
pins: 1

## TP THT
designator TP?
footprint GEN_1_Pin_TH_TP
pins: 1

## TRIMMER 5K OHM 0.1W J LEAD TOP
designator R?, comment 5K TRIMPOT
Manufacturer: Bourns; Manufacturer Part Number: TC33X-2-502E; Tolerance: 1%; Supplier 1: Digi-Key; Supplier Part Number 1: TC33X-502ECT-ND; Value: 5K
footprint BOU_3mm_POT
pins: 1, 2, 3

## TVS TPD1E1B04
designator D?, comment TPD1E1B04
Manufacturer: Texas Instruments; Manufacturer Part Number: TPD1E1B04DPYR; Supplier 1: Digi-Key; Supplier Part Number 1: 296-47364-1-ND
footprint TI_X1SON_DPY0002A (Chip Resistor, 2-Leads, Body 1.00x0.50mm, IPC Medium Density)
pins: 1 K, 2 A

## UFL Jack SMD
designator J?, comment UFL
Manufacturer: TE Connectivity; Manufacturer Part Number: 2334884-1; Supplier 1: Digi-Key; Supplier Part Number 1: A145155CT-ND
footprint TE_2334884-1
pins: 1 Signal, 2 SHIELD

## VARISTOR 68V 250A 1210
designator VAR?, comment ZV40K1210251NIR1HT
Supplier 1: Digi-Key; Supplier Part Number 1: 118-ZV40K1210251NIR1HTCT-ND
footprint GEN_VAR_1210 (Chip Varistor, 2-Leads, Body 3.20x2.54mm, IPC Medium Density)
pins: 1, 2

## VARISTOR 220V 400A 1210
designator VAR?, comment V120MLA1210NH
Manufacturer: Littelfuse; Supplier 1: Digi-Key; Supplier Part Number 1: F3831CT-ND; Manufacturer Part Number: V120MLA1210NH
footprint GEN_VAR_1210 (Chip Varistor, 2-Leads, Body 3.20x2.54mm, IPC Medium Density)
pins: 1, 2